# Altium schematic symbol library MOC3020.SchLib: 1 symbol
Pins are listed as number, name and electrical type; pins without a type are passive.

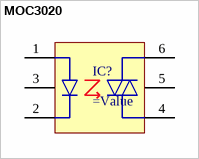
[diagram p0: symbol MOC3020]

## MOC3020
designator IC?
=Description
pins: 1 ANODE, 2 CATHODE, 3 NC, 4 TERM, 5 NC, 6 TERM